# Altium integrated library S6B-PH-SM4-TB_LF__SN_.IntLib: 1 symbol
Pins are listed as number, name and electrical type; pins without a type are passive.

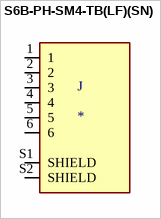
[diagram p0: symbol S6B-PH-SM4-TB(LF)(SN)]

## S6B-PH-SM4-TB(LF)(SN)
designator J
Connector Header Surface Mount, Right Angle 6 position 0.079 _2.00mm_; MP: S6B-PH-SM4-TB_LF__SN_; MF: JST Sales; SnapEDA_Link: https://www.snapeda.com/parts/S6B-PH-SM4-TB_LF__SN_/JST%20Sales%20America%20Inc./view-part/491647/?ref=snap; Digi-Key_Part_Number: 455-1753-1-ND; Digi-Key_Purchase_URL: https://www.digikey.com/product-detail/en/jst-sales-america-inc/S6B-PH-SM4-TB_LF__SN_/455-1753-1-ND/926850?utm_source=snapeda&utm_medium=aggregator&utm_campaign=symbol; Value: *; Package: None
footprint JST_S6B-PH-SM4-TB(LF)(SN)
pins: 1, 2, 3, 4, 5, 6, S1 SHIELD, S2 SHIELD